# EAGLE library part MIKROBUS (library MikroBUS)
MikroBUS Source: MikroBUS specification <http://www.mikroe.com/downloads/get/1737/mikrobus_specification.pdf> MikroBUS <http://www.mikroe.com/mikrobus/>
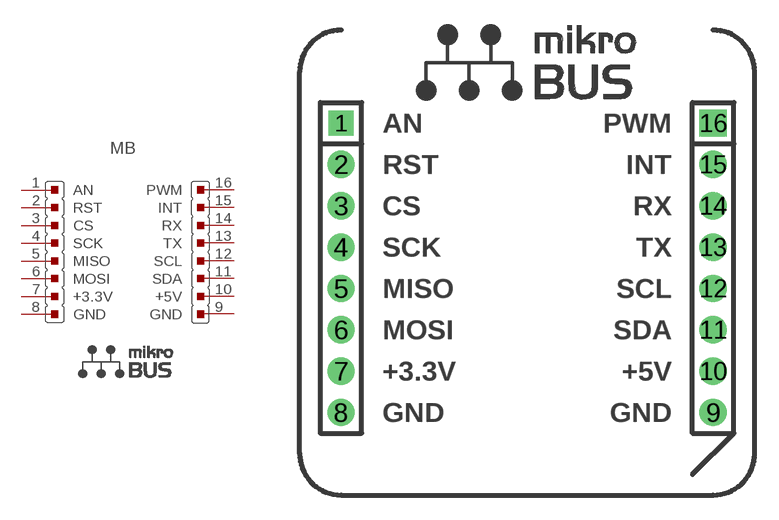
[diagram p0: symbol with the pads of MIKROBUS; footprint MIKROBUS]

Designator prefix MB

## MIKROBUS  [MIKROBUS]
1  AN
2  RST
3  CS
4  SCK
5  MISO
6  MOSI
7  +3.3V  pas
8  GND  pas
9  GND  pas
10  +5V  pas
11  SDA
12  SCL
13  TX
14  RX
15  INT
16  PWM

## Footprint MIKROBUS (pad centres in mm)
MikroBUS You can freely place mikroBUS™ host connectors in your final PCB designs, as long as you clearly mark them on the silkscreen with mikroBUS™ footprint specifications:
drill 1.016 square: 1 -11.43,7.62
drill 1.016 pad 1.676: 2 -11.43,5.08; 3 -11.43,2.54; 4 -11.43,0; 5 -11.43,-2.54; 6 -11.43,-5.08; 7 -11.43,-7.62; 8 -11.43,-10.16; 9 11.43,-10.16; 10 11.43,-7.62; 11 11.43,-5.08; 12 11.43,-2.54; 13 11.43,0; 14 11.43,2.54; 15 11.43,5.08
drill 1.016 pad 1.676 square: 16 11.43,7.62